# Altium integrated library Sound.IntLib: 5 symbols
Pins are listed as number, name and electrical type; pins without a type are passive.

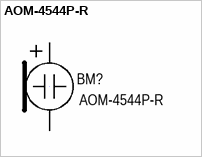
[diagram p0: symbol AOM-4544P-R]

## AOM-4544P-R
designator BM?
Microphone electret d9.4x6.7 TH; Manufacturer: PUI Audio; Component: Audio Microphone; Group: Signal; Voltage supply: 3V - 10V; Sensitivity: -44dB; Current supply: 0.5mA; Impedance: 2.2kOhms; Package: D9.7x6.7; Part name: AOM-4544P-R; Operating temperature: -20°C +70°C; Mounting type: Through hole; Dimension: 9.70mm x 9.70mm; Height: 6.70mm; Type: Electret condenser
footprint MICE-D9.7x4.5N (Mcrophone electret d9.7x4.5mm)
pins: 1 +, 2 -


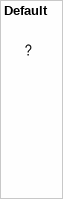
[diagram p1: symbol Default]

## Default
designator ?
Default; Operating temperature: -°C +°C; Mounting type: Surface mount; Dimension: .0mm x .0mm; Height: .0mm


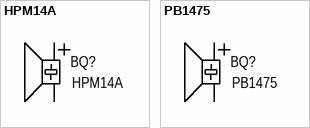
[diagram p2: symbols HPM14A to PB1475]

## HPM14A
designator BQ?
Buzzer d14x7.5 TH; Component: Sound Buzzer; Group: Mechanical; Voltage supply: 1V - 20V; Frequency: 4kHz; Current supply: 3mA; Mode: Single tone; Package: D14x7.5; Part name: HPM14A; Operating temperature: -20°C +85°C; Mounting type: Through hole; Dimension: 14.00mm x 14.00mm; Height: 7.70mm; Technology: Piezo
footprint BUZ-D14x7.5N (Buzzer, Body d14x7.5mm)
pins: 1 +, 2 -

## PB1475
designator BQ?
Buzzer d14x7.5 TH; Manufacturer: SWT; Component: Sound Buzzer; Group: Mechanical; Voltage supply: 1V - 30V; Frequency: 4kHz; Current supply: 2mA; Mode: Single tone; Package: D14x7.5; Part name: PB1475; Operating temperature: -20°C +70°C; Mounting type: Through hole; Dimension: 14.00mm x 14.00mm; Height: 7.70mm; Technology: Piezo
footprint BUZ-D14x7.5N (Buzzer, Body d14x7.5mm)
pins: 1 +, 2 -


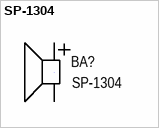
[diagram p3: symbol SP-1304]

## SP-1304
designator BA?
Speaker 32Ohm 10mW THW; Manufacturer: Soberton; Component: Audio Speaker; Group: Signal; Impedance: 32Ohms; Power: 300mW; Frequency Range: 300Hz - 8kHz; Package: Wires; Part name: SP-1304; Operating temperature: -20°C +60°C; Mounting type: Through hole wires; Dimension: 14.00mm x 14.00mm; Height: 0.00mm; Technology: Magnetic
footprint THWN (Speaker wires)
pins: 1 +, 2 -